# EAGLE library part STEPSTICK (library regulador)
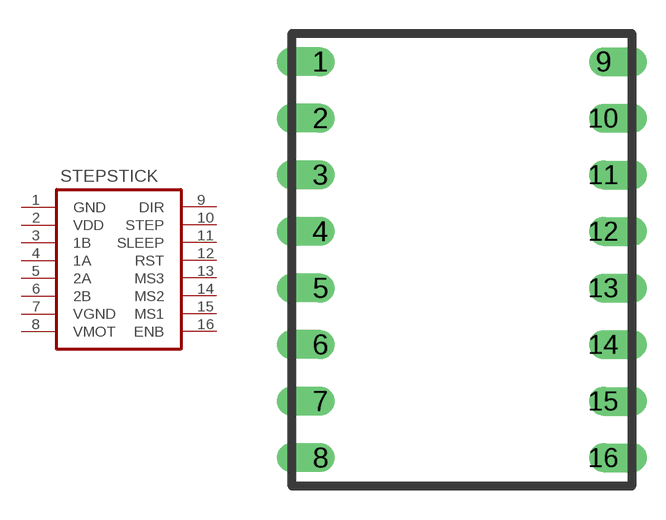
[diagram p1: symbol with the pads of STEPSTICK; footprint STEPSTICK]

Designator prefix -

## STEPSTICK  [STEPSTICK]
1  GND  sup
2  VDD  pwr
3  1B  out
4  1A  out
5  2A  out
6  2B  out
7  VGND  sup
8  VMOT  pwr
9  DIR  in
10  STEP  in
11  SLEEP  in
12  RST  in
13  MS3  in
14  MS2  in
15  MS1  in
16  ENB  in

## Footprint STEPSTICK (pad centres in mm)
drill 0.8 offset: 1 -6.35,8.89; 2 -6.35,6.35; 3 -6.35,3.81; 4 -6.35,1.27; 5 -6.35,-1.27; 6 -6.35,-3.81; 7 -6.35,-6.35; 8 -6.35,-8.89; 9 6.35,8.89; 10 6.35,6.35; 11 6.35,3.81; 12 6.35,1.27; 13 6.35,-1.27; 14 6.35,-3.81; 15 6.35,-6.35; 16 6.35,-8.89